# EAGLE library part LOXONE_NANOIOAIR (library loxone)
Loxone Nano IO Air
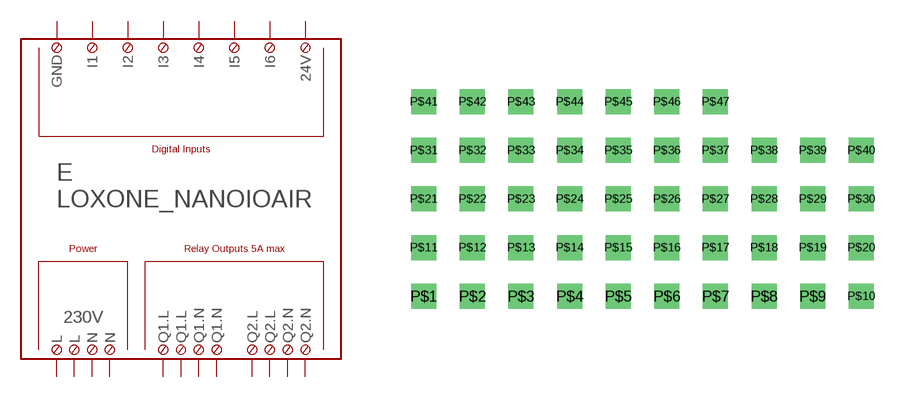
[diagram p5: symbol with the pads of LOXONE_EXTENSION_DUMMY; footprint LOXONE_EXTENSION_DUMMY]

Designator prefix E

## LOXONE_NANOIOAIR  [LOXONE_EXTENSION_DUMMY]
P$1  24V.3  pas
P$2  GND.3  pas
P$3  I1  pas
P$4  I2  pas
P$5  I3  pas
P$6  I4  pas
P$7  I5  pas
P$8  I6  pas
P$9  L.1  pas
P$10  L.2  pas
P$11  N.1  pas
P$12  N.2  pas
P$13  Q1.L1  pas
P$14  Q1.L2  pas
P$15  Q1.N1  pas
P$16  Q1.N2  pas
P$17  Q2.L1  pas
P$18  Q2.L2  pas
P$19  Q2.N1  pas
P$20  Q2.N2  pas

## Footprint LOXONE_EXTENSION_DUMMY (pad centres in mm)
drill 0.8 square: P$1 0,0; P$2 2.54,0; P$3 5.08,0; P$4 7.62,0; P$5 10.16,0; P$6 12.7,0; P$7 15.24,0; P$8 17.78,0; P$9 20.32,0; P$10 22.86,0; P$11 0,2.54; P$12 2.54,2.54; P$13 5.08,2.54; P$14 7.62,2.54; P$15 10.16,2.54; P$16 12.7,2.54; P$17 15.24,2.54; P$18 17.78,2.54; P$19 20.32,2.54; P$20 22.86,2.54; P$21 0,5.08; P$22 2.54,5.08; P$23 5.08,5.08; P$24 7.62,5.08; P$25 10.16,5.08; P$26 12.7,5.08; P$27 15.24,5.08; P$28 17.78,5.08; P$29 20.32,5.08; P$30 22.86,5.08; P$31 0,7.62; P$32 2.54,7.62; P$33 5.08,7.62; P$34 7.62,7.62; P$35 10.16,7.62; P$36 12.7,7.62; P$37 15.24,7.62; P$38 17.78,7.62; P$39 20.32,7.62; P$40 22.86,7.62; P$41 0,10.16; P$42 2.54,10.16; P$43 5.08,10.16; P$44 7.62,10.16; P$45 10.16,10.16; P$46 12.7,10.16; P$47 15.24,10.16